# Altium schematic symbol library Sensor_Pressure.SchLib: 15 symbols
Pins are listed as number, name and electrical type; pins without a type are passive.

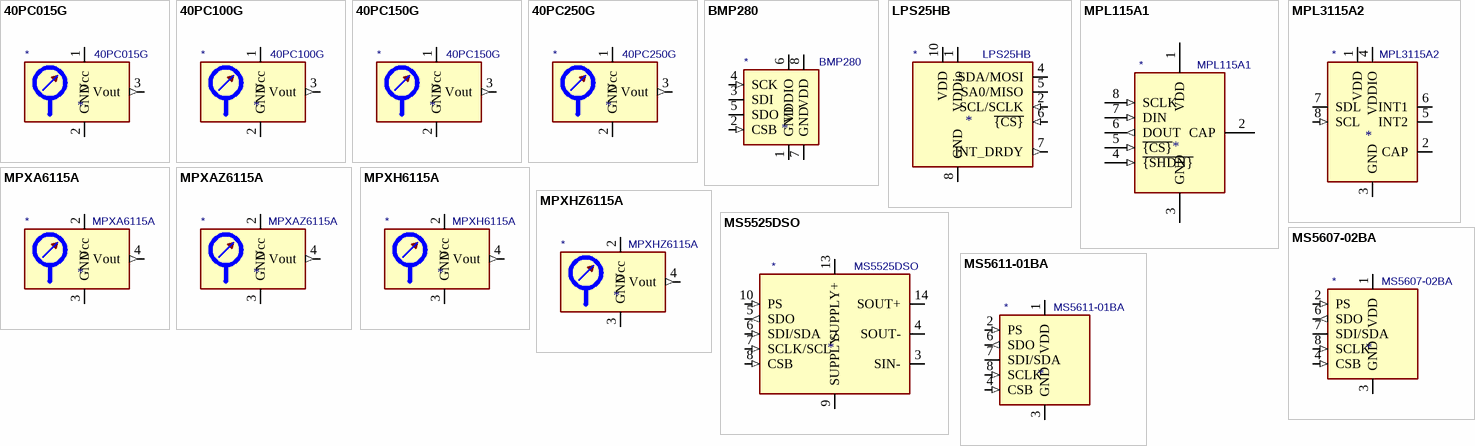
[diagram p0: symbols 40PC015G to MS5611-01BA]

## 40PC015G
designator *  value 40PC015G
ki_keywords: gage gauge pressure sensor; ki_description: Gauge pressure sensor, 0 to 15PSI, 5V supply, 0.2% accuracy, integrated signal conditioning, excellent media compatibility; Supplier: http://www.honeywellscportal.com//index.php?ci_id=138832
pins: 1 Vcc (power), 2 GND (power), 3 Vout (out), 4 NC (in) hidden, 5 NC (in) hidden, 6 NC (in) hidden

## 40PC100G
designator *  value 40PC100G
ki_keywords: gage gauge pressure sensor; ki_description: Gauge pressure sensor, 0 to 100PSI, 5V supply, 0.2% accuracy, integrated signal conditioning, excellent media compatibility; Supplier: http://www.honeywellscportal.com//index.php?ci_id=138832
pins: 1 Vcc (power), 2 GND (power), 3 Vout (out), 4 NC (in) hidden, 5 NC (in) hidden, 6 NC (in) hidden

## 40PC150G
designator *  value 40PC150G
ki_keywords: gage gauge pressure sensor; ki_description: Gauge pressure sensor, 0 to 150PSI, 5V supply, 0.2% accuracy, integrated signal conditioning, excellent media compatibility; Supplier: http://www.honeywellscportal.com//index.php?ci_id=138832
pins: 1 Vcc (power), 2 GND (power), 3 Vout (out), 4 NC (in) hidden, 5 NC (in) hidden, 6 NC (in) hidden

## 40PC250G
designator *  value 40PC250G
ki_keywords: gage gauge pressure sensor; ki_description: Gauge pressure sensor, 0 to 250PSI, 5V supply, 0.2% accuracy, integrated signal conditioning, excellent media compatibility; Supplier: http://www.honeywellscportal.com//index.php?ci_id=138832
pins: 1 Vcc (power), 2 GND (power), 3 Vout (out), 4 NC (in) hidden, 5 NC (in) hidden, 6 NC (in) hidden

## BMP280
designator *  value BMP280
ki_keywords: I2C, SPI, pressure, temperature, sensor; ki_description: Absolute Barometric Pressure Sensor, LGA-8; ki_fp_filters: Bosch*LGA*2x2.5mm*P0.65mm*; Footprint: Package_LGA:Bosch_LGA-8_2x2.5mm_P0.65mm_ClockwisePinNumbering; Supplier: https://ae-bst.resource.bosch.com/media/_tech/media/datasheets/BST-BMP280-DS001.pdf
footprint Bosch_LGA-8_2x2.5mm_P0.65mm_ClockwisePinNumbering
pins: 1 GND (power), 2 CSB (in), 3 SDI (io), 4 SCK (in), 5 SDO (io), 6 VDDIO (power), 7 GND (power), 8 VDD (power)

## LPS25HB
designator *  value LPS25HB
ki_keywords: mems absolute baromeeter; ki_description: MEMS pressure sensor, 260-1260 hPa, absolute digital output baromeeter; ki_fp_filters: ST?HLGA*2.5x2.5mm*P0.6mm*LayoutBorder3x2y*; Footprint: Package_LGA:ST_HLGA-10_2.5x2.5mm_P0.6mm_LayoutBorder3x2y; Supplier: www.st.com/resource/en/datasheet/lps25hb.pdf
footprint ST_HLGA-10_2.5x2.5mm_P0.6mm_LayoutBorder3x2y
pins: 1 VDDio (power), 2 SCL/SCLK (in), 3 GND hidden, 4 SDA/MOSI (io), 5 SA0/MISO (io), 6 ~{{CS}} (in), 7 INT_DRDY (out), 8 GND (power), 9 GND hidden, 10 VDD (power)

## MPL115A1
designator *  value MPL115A1
ki_keywords: spi barometer thermometer mems; ki_description: SPI Digital Barometer; ki_fp_filters: NXP*LGA*3x5mm*P1.25mm*H1.2mm*; Footprint: Package_LGA:NXP_LGA-8_3x5mm_P1.25mm_H1.2mm; Supplier: http://www.nxp.com/assets/documents/data/en/data-sheets/MPL115A1.pdf
footprint NXP_LGA-8_3x5mm_P1.25mm_H1.2mm
pins: 1 VDD (power), 2 CAP, 3 GND (power), 4 ~{{SHDN}} (in), 5 ~{{CS}} (in), 6 DOUT (out), 7 DIN (in), 8 SCLK (in)

## MPL3115A2
designator *  value MPL3115A2
ki_keywords: pressure sensor altimetry; ki_description: I2C precision pressure sensor with altimetry, LGA-8; ki_fp_filters: NXP*LGA*3x5mm*P1.25mm*H1.1mm*; Footprint: Package_LGA:NXP_LGA-8_3x5mm_P1.25mm_H1.1mm; Supplier: https://www.nxp.com/docs/en/data-sheet/MPL3115A2.pdf
footprint NXP_LGA-8_3x5mm_P1.25mm_H1.1mm
pins: 1 VDD (power), 2 CAP, 3 GND (power), 4 VDDIO (power), 5 INT2 (oc), 6 INT1 (oc), 7 SDL (io), 8 SCL (in)

## MPXA6115A
designator *  value MPXA6115A
ki_keywords: absolute pressure sensor; ki_description: Absolute pressure sensor, 15 to 115kPa, analog output, integrated signal conditioning, temperature compensated, SO package; Supplier: http://www.nxp.com/files/sensors/doc/data_sheet/MPXA6115A.pdf
pins: 1 NC (in) hidden, 2 Vcc (power), 3 GND (power), 4 Vout (out), 5 NC (in) hidden, 6 NC (in) hidden, 7 NC (in) hidden, 8 NC (in) hidden

## MPXAZ6115A
designator *  value MPXAZ6115A
ki_keywords: absolute pressure sensor; ki_description: Absolute pressure sensor, 15 to 115kPa, analog output, integrated signal conditioning, temperature compensated, media resistant gel, SO package; Supplier: http://www.nxp.com/files/sensors/doc/data_sheet/MPXA6115A.pdf
pins: 1 NC (in) hidden, 2 Vcc (power), 3 GND (power), 4 Vout (out), 5 NC (in) hidden, 6 NC (in) hidden, 7 NC (in) hidden, 8 NC (in) hidden

## MPXH6115A
designator *  value MPXH6115A
ki_keywords: absolute pressure sensor; ki_description: Absolute pressure sensor, 15 to 115kPa, analog output, integrated signal conditioning, temperature compensated, SSO package; Supplier: http://www.nxp.com/files/sensors/doc/data_sheet/MPXA6115A.pdf
pins: 1 NC (in) hidden, 2 Vcc (power), 3 GND (power), 4 Vout (out), 5 NC (in) hidden, 6 NC (in) hidden, 7 NC (in) hidden, 8 NC (in) hidden

## MPXHZ6115A
designator *  value MPXHZ6115A
ki_keywords: absolute pressure sensor; ki_description: Absolute pressure sensor, 15 to 115kPa, analog output, integrated signal conditioning, temperature compensated, media resistant gel, SSO package; Supplier: http://www.nxp.com/files/sensors/doc/data_sheet/MPXA6115A.pdf
pins: 1 NC (in) hidden, 2 Vcc (power), 3 GND (power), 4 Vout (out), 5 NC (in) hidden, 6 NC (in) hidden, 7 NC (in) hidden, 8 NC (in) hidden

## MS5525DSO
designator *  value MS5525DSO
ki_keywords: 24bit low-power I2C SPI; ki_description: Integrated Digital Pressure Sensor; ki_fp_filters: TE?MS5525DSO*DB* TE?MS5525DSO*SB* TE?MS5525DSO*ST* TE?MS5525DSO*DH* TE?MS5525DSO*FT* TE?MS5525DSO*FB*; Supplier: https://www.te.com/commerce/DocumentDelivery/DDEController?Action=srchrtrv&DocNm=MS5525DSO&DocType=DS&DocLang=English
pins: 1 SIN- hidden, 2 SOUT- hidden, 3 SIN-, 4 SOUT-, 5 SDO (out), 6 SDI/SDA (in), 7 SCLK/SCL (in), 8 CSB (in), 9 SUPPLY- (power), 10 PS (in), 11 SUPPLY+ hidden, 12 SOUT+ hidden, 13 SUPPLY+ (power), 14 SOUT+

## MS5607-02BA
designator *  value MS5607-02BA
ki_keywords: pressure SPI I2C; ki_description: Barometric pressure sensor, 20cm resolution, 10 to 1200 mbar, I2C and SPI interface up to 20MHz, LGA-8; ki_fp_filters: LGA*3x5mm*P1.25mm*; Footprint: Package_LGA:LGA-8_3x5mm_P1.25mm; Supplier: https://www.te.com/commerce/DocumentDelivery/DDEController?Action=showdoc&DocId=Data+Sheet%7FMS5607-02BA03%7FB2%7Fpdf%7FEnglish%7FENG_DS_MS5607-02BA03_B2.pdf%7FCAT-BLPS0035
footprint LGA-8_3x5mm_P1.25mm
pins: 1 VDD (power), 2 PS (in), 3 GND (power), 4 CSB (in), 5 CSB (in) hidden, 6 SDO (out), 7 SDI/SDA (io), 8 SCLK (in)

## MS5611-01BA
designator *  value MS5611-01BA
ki_keywords: pressure SPI I2C; ki_description: Barometric pressure sensor, 10cm resolution, 10 to 1200 mbar, I2C and SPI interface up to 20MHz, LGA-8; ki_fp_filters: LGA*3x5mm*P1.25mm*; Footprint: Package_LGA:LGA-8_3x5mm_P1.25mm; Supplier: https://www.te.com/commerce/DocumentDelivery/DDEController?Action=srchrtrv&DocNm=MS5611-01BA03&DocType=Data+Sheet&DocLang=English
footprint LGA-8_3x5mm_P1.25mm
pins: 1 VDD (power), 2 PS (in), 3 GND (power), 4 CSB (in), 5 CSB (in) hidden, 6 SDO (out), 7 SDI/SDA (io), 8 SCLK (in)